# EAGLE library part ST2378E_TSSOP (library ST2378E)
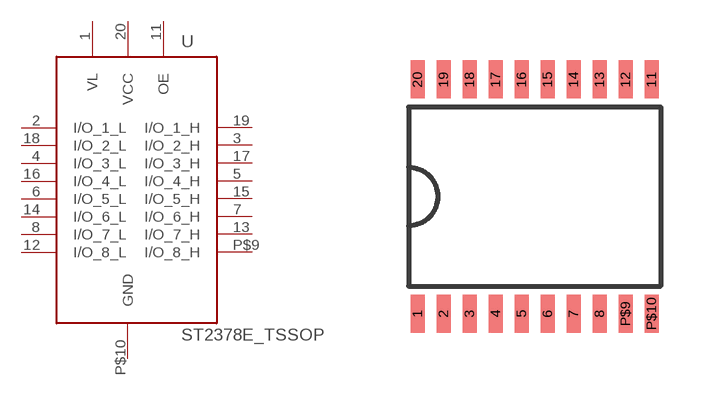
[diagram p1: symbol with the pads of TSSOP20; footprint TSSOP20]

Designator prefix -

## ST2378E_TSSOP  [TSSOP20]
1  VL
2  I/O_1_L
3  I/O_2_H
4  I/O_3_L
5  I/O_4_H
6  I/O_5_L
7  I/O_6_H
8  I/O_7_L
11  OE
12  I/O_8_L
13  I/O_7_H
14  I/O_6_L
15  I/O_5_H
16  I/O_4_L
17  I/O_3_H
18  I/O_2_L
19  I/O_1_H
20  VCC
P$9  I/O_8_H
P$10  GND

## Footprint TSSOP20 (pad centres in mm)
smd 0.35 x 0.95: 1 -3.585,-3.225; 2 -2.935,-3.225; 3 -2.285,-3.225; 4 -1.635,-3.225; 5 -0.985,-3.225; 6 -0.335,-3.225; 7 0.315,-3.225; 8 0.965,-3.225; 11 2.265,2.625; 12 1.615,2.625; 13 0.965,2.625; 14 0.315,2.625; 15 -0.335,2.625; 16 -0.985,2.625; 17 -1.635,2.625; 18 -2.285,2.625; 19 -2.935,2.625; 20 -3.585,2.625; P$9 1.615,-3.225; P$10 2.265,-3.225